# Altium footprint library benchtoppcblib.PcbLib: 18 footprints (part 2 of 2)
Each footprint in its own frame and in the unit in brackets; x right, y up, seen from the top. Pads: shape width x height; smd on the part's side, far side on the other; paste and mask are expansions set on the pad; w line width, h text height; cw(c..) or ccw(c..) is an arc to the next point about the centre after c.
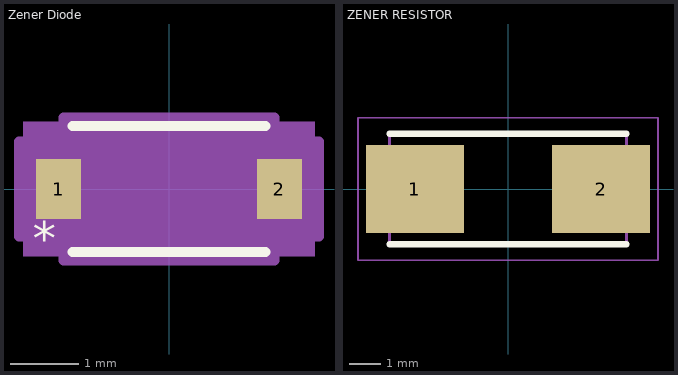
[diagram p1: the footprints below, top view; thin cyan lines are the x and y axes]

## Zener Diode [mil] "KDZVTR16B"
pads (2):
  rect 26x35 smd paste+0 mask+0: 1(-64,0) 2(64,0)
Top Overlay:
  lines w6: -56,-36.5 56,-36.5 ; -56,36.5 56,36.5
  text "*" at -79,-39 h20
Mechanical 5:
  region: 84.5,-39 -84.5,-39 -84.5,39 84.5,39
Mechanical 13:
  lines w1: -51,-15.75 -35.25,-31.5 ; -51,15.75 -35.25,31.5 ; -69,-17.5 -51,-17.5 -51,17.5 -69,17.5 -69,-17.5 ; -51,-31.5 -51,31.5 51,31.5 51,-31.5 -51,-31.5 ; 51,-17.5 69,-17.5 69,17.5 51,17.5 51,-17.5
  text "*" at -53.5,-25 h50
Mechanical 15:
  region: -61,-27.5 -87,-27.5 -87,27.5 -61,27.5 -61,41.5 61,41.5 61,27.5 87,27.5 87,-27.5 61,-27.5 61,-41.5 -61,-41.5
  lines w6: -87,-27.5 -61,-27.5 -61,-41.5 61,-41.5 61,-27.5 87,-27.5 87,27.5 61,27.5 61,41.5 -61,41.5 -61,27.5 -87,27.5 -87,-27.5
3D body: height 10, standoff 0, extent 0,0 10,10

## ZENER RESISTOR [mm]
pads (2):
  rect 3.1x2.8 smd: 1(-2.95,0) 2(2.95,0)
Top Overlay:
  lines w0.2: -3.75,-1.75 3.75,-1.75 ; -3.75,1.75 3.75,1.75
Mechanical 13:
  lines w0.1: -3.75,-1.75 -3.75,1.75 3.75,1.75 3.75,-1.75 -3.75,-1.75
Mechanical 15:
  lines w0.05: -4.75,-2.254 -4.75,2.254 4.75,2.254 4.75,-2.254 -4.75,-2.254
3D body "PWR3014W5R00JE.stp": height 5.15, standoff 0, extent -3.75,-1.75 3.75,1.75